# Altium schematic symbol library QUTMS_CrystalLibrary.SchLib: 3 symbols
Pins are listed as number, name and electrical type; pins without a type are passive.

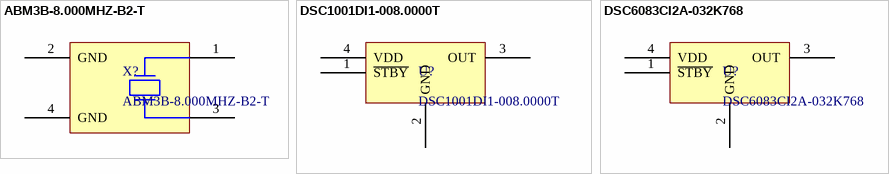
[diagram p0: symbols ABM3B-8.000MHZ-B2-T to DSC6083CI2A-032K768]

## ABM3B-8.000MHZ-B2-T
designator X?
8MHz ±20ppm Crystal 18pF 200 Ohms 4-SMD, No Lead; ComponentLink1Description: Digikey; ComponentLink1URL: https://www.digikey.com.au/product-detail/en/abracon-llc/ABM3B-8-000MHZ-B2-T/535-9720-1-ND/1873254; ComponentLink2Description: Datasheet; ComponentLink2URL: https://abracon.com/Resonators/abm3b.pdf
footprint ABM3B-8.000MHZ-B2-T (8MHz Crystal)
pins: 1, 2 GND, 3, 4 GND

## DSC1001DI1-008.0000T
designator U?
8MHz XO (Standard) CMOS Oscillator 1.8 ~ 3.3V Standby (Power Down) 4-SMD, No Lead
footprint DSC1001DI1-008.0000TCT-ND
pins: 1 ~{STBY}, 2 GND, 3 OUT, 4 VDD

## DSC6083CI2A-032K768
designator U?
32.768kHz XO (Standard) CMOS Oscillator 1.8V ~ 3.3V 4-SMD, No Lead
footprint DSC6083CI2A-032K768
pins: 1 ~{STBY}, 2 GND, 3 OUT, 4 VDD